# Altium schematic symbol library Connector.SchLib: 66 symbols
Pins are listed as number, name and electrical type; pins without a type are passive.

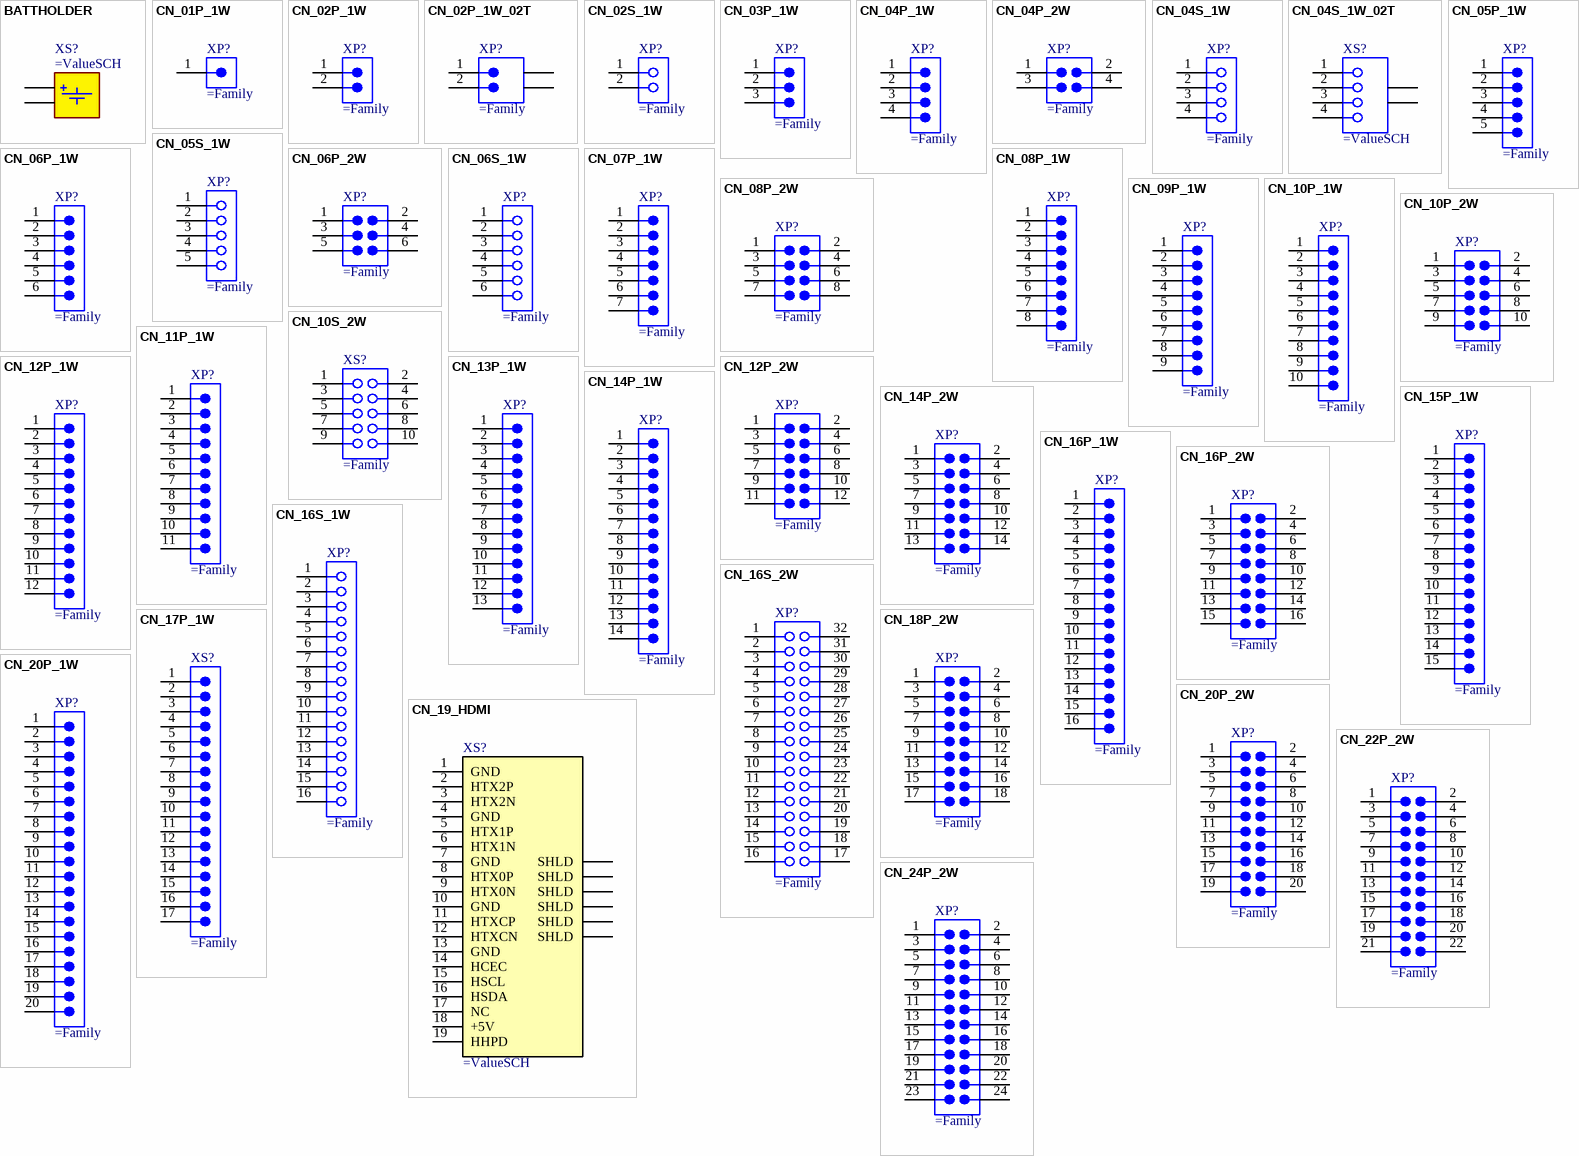
[diagram p0: symbols BATTHOLDER to CN_24P_2W]

## BATTHOLDER
designator XS?
Battery Holder
pins: M, P

## CN_01P_1W
designator XP?
pins: 1

## CN_02P_1W
designator XP?
pins: 1, 2

## CN_02P_1W_02T
designator XP?
pins: 1, 2, T, T

## CN_02S_1W
designator XP?
pins: 1, 2

## CN_03P_1W
designator XP?
pins: 1, 2, 3

## CN_04P_1W
designator XP?
pins: 1, 2, 3, 4

## CN_04P_2W
designator XP?
pins: 1, 2, 3, 4

## CN_04S_1W
designator XP?
pins: 1, 2, 3, 4

## CN_04S_1W_02T
designator XS?
pins: 1, 2, 3, 4, T, T

## CN_05P_1W
designator XP?
pins: 1, 2, 3, 4, 5

## CN_05S_1W
designator XP?
pins: 1, 2, 3, 4, 5

## CN_06P_1W
designator XP?
pins: 1, 2, 3, 4, 5, 6

## CN_06P_2W
designator XP?
pins: 1, 2, 3, 4, 5, 6

## CN_06S_1W
designator XP?
pins: 1, 2, 3, 4, 5, 6

## CN_07P_1W
designator XP?
pins: 1, 2, 3, 4, 5, 6, 7

## CN_08P_1W
designator XP?
pins: 1, 2, 3, 4, 5, 6, 7, 8

## CN_08P_2W
designator XP?
pins: 1, 2, 3, 4, 5, 6, 7, 8

## CN_09P_1W
designator XP?
pins: 1, 2, 3, 4, 5, 6, 7, 8, 9

## CN_10P_1W
designator XP?
pins: 1, 2, 3, 4, 5, 6, 7, 8, 9, 10

## CN_10P_2W
designator XP?
pins: 1, 2, 3, 4, 5, 6, 7, 8, 9, 10

## CN_10S_2W
designator XS?
pins: 1, 2, 3, 4, 5, 6, 7, 8, 9, 10

## CN_11P_1W
designator XP?
pins: 1, 2, 3, 4, 5, 6, 7, 8, 9, 10, 11

## CN_12P_1W
designator XP?
pins: 1, 2, 3, 4, 5, 6, 7, 8, 9, 10, 11, 12

## CN_12P_2W
designator XP?
pins: 1, 2, 3, 4, 5, 6, 7, 8, 9, 10, 11, 12

## CN_13P_1W
designator XP?
pins: 1, 2, 3, 4, 5, 6, 7, 8, 9, 10, 11, 12, 13

## CN_14P_1W
designator XP?
pins: 1, 2, 3, 4, 5, 6, 7, 8, 9, 10, 11, 12, 13, 14

## CN_14P_2W
designator XP?
pins: 1, 2, 3, 4, 5, 6, 7, 8, 9, 10, 11, 12, 13, 14

## CN_15P_1W
designator XP?
pins: 1, 2, 3, 4, 5, 6, 7, 8, 9, 10, 11, 12, 13, 14, 15

## CN_16P_1W
designator XP?
pins: 1, 2, 3, 4, 5, 6, 7, 8, 9, 10, 11, 12, 13, 14, 15, 16

## CN_16P_2W
designator XP?
pins: 1, 2, 3, 4, 5, 6, 7, 8, 9, 10, 11, 12, 13, 14, 15, 16

## CN_16S_1W
designator XP?
pins: 1, 2, 3, 4, 5, 6, 7, 8, 9, 10, 11, 12, 13, 14, 15, 16

## CN_16S_2W
designator XP?
pins: 1, 2, 3, 4, 5, 6, 7, 8, 9, 10, 11, 12, 13, 14, 15, 16, 17, 18, 19, 20, 21, 22, 23, 24, 25, 26, 27, 28, 29, 30, 31, 32

## CN_17P_1W
designator XS?
pins: 1, 2, 3, 4, 5, 6, 7, 8, 9, 10, 11, 12, 13, 14, 15, 16, 17

## CN_18P_2W
designator XP?
pins: 1, 2, 3, 4, 5, 6, 7, 8, 9, 10, 11, 12, 13, 14, 15, 16, 17, 18

## CN_19_HDMI
designator XS?
pins: 1 GND, 2 HTX2P, 3 HTX2N, 4 GND, 5 HTX1P, 6 HTX1N, 7 GND, 8 HTX0P, 9 HTX0N, 10 GND, 11 HTXCP, 12 HTXCN, 13 GND, 14 HCEC, 15 HSCL, 16 HSDA, 17 NC, 18 +5V, 19 HHPD, SHLD, SHLD, SHLD, SHLD, SHLD, SHLD

## CN_20P_1W
designator XP?
pins: 1, 2, 3, 4, 5, 6, 7, 8, 9, 10, 11, 12, 13, 14, 15, 16, 17, 18, 19, 20

## CN_20P_2W
designator XP?
pins: 1, 2, 3, 4, 5, 6, 7, 8, 9, 10, 11, 12, 13, 14, 15, 16, 17, 18, 19, 20

## CN_22P_2W
designator XP?
pins: 1, 2, 3, 4, 5, 6, 7, 8, 9, 10, 11, 12, 13, 14, 15, 16, 17, 18, 19, 20, 21, 22

## CN_24P_2W
designator XP?
pins: 1, 2, 3, 4, 5, 6, 7, 8, 9, 10, 11, 12, 13, 14, 15, 16, 17, 18, 19, 20, 21, 22, 23, 24

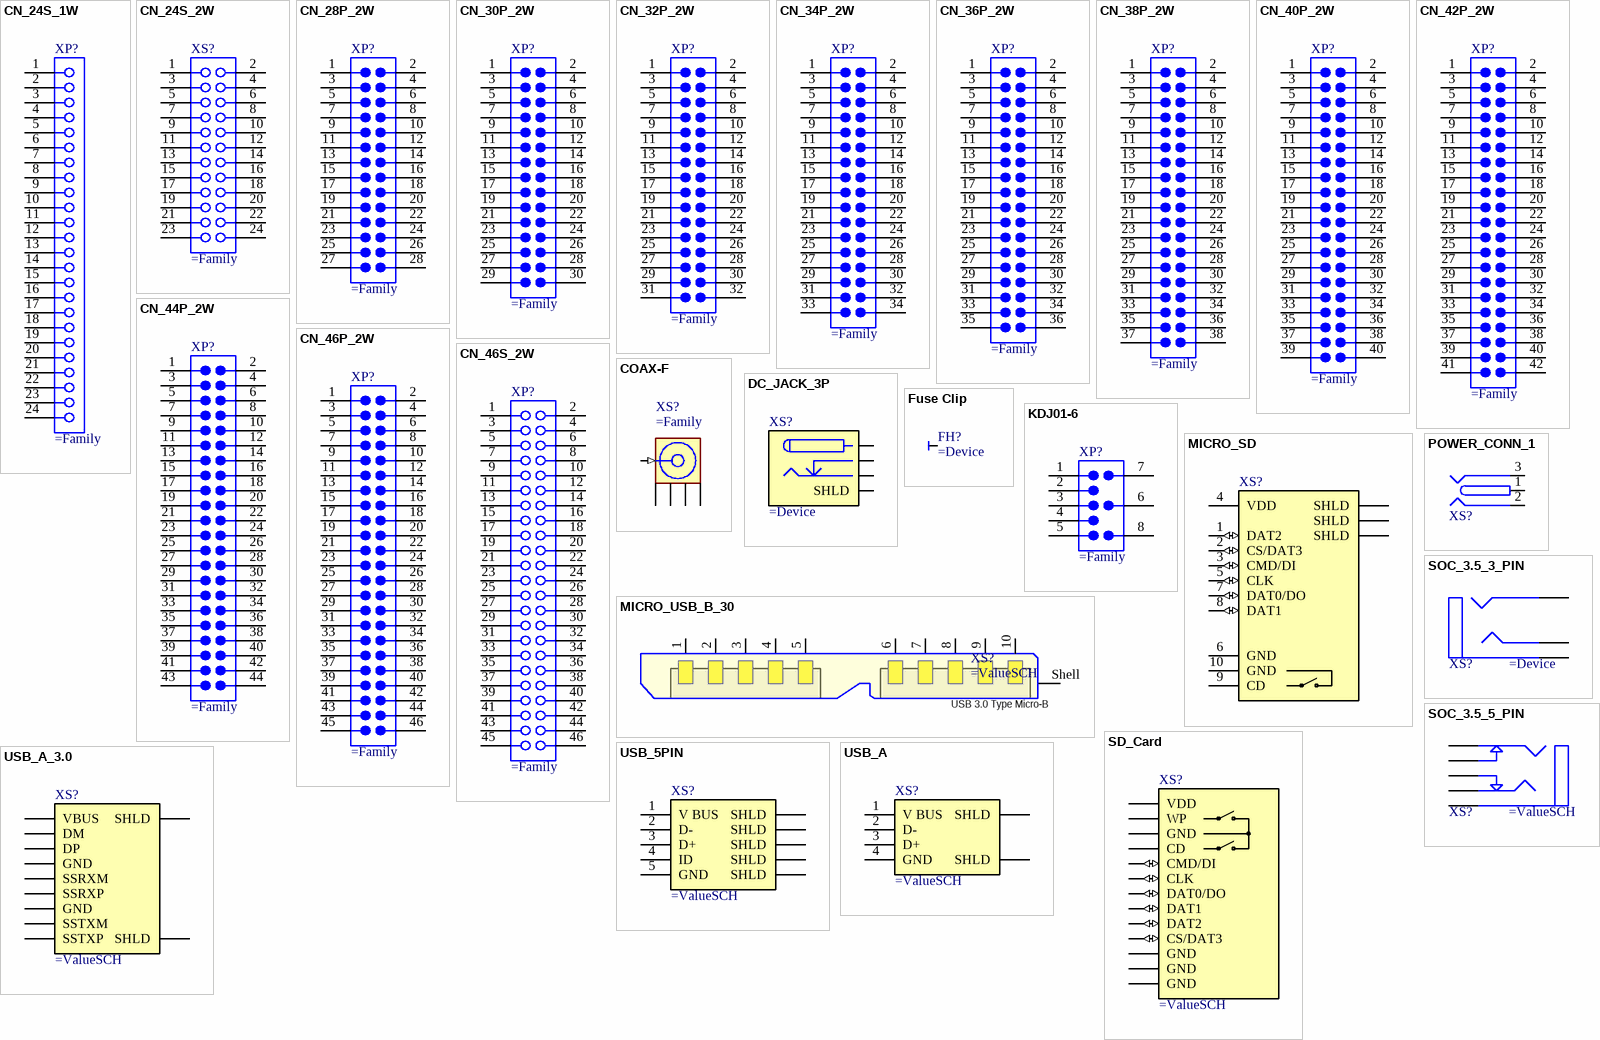
[diagram p1: symbols CN_24S_1W to USB_A_3.0]

## CN_24S_1W
designator XP?
pins: 1, 2, 3, 4, 5, 6, 7, 8, 9, 10, 11, 12, 13, 14, 15, 16, 17, 18, 19, 20, 21, 22, 23, 24

## CN_24S_2W
designator XS?
pins: 1, 2, 3, 4, 5, 6, 7, 8, 9, 10, 11, 12, 13, 14, 15, 16, 17, 18, 19, 20, 21, 22, 23, 24

## CN_28P_2W
designator XP?
pins: 1, 2, 3, 4, 5, 6, 7, 8, 9, 10, 11, 12, 13, 14, 15, 16, 17, 18, 19, 20, 21, 22, 23, 24, 25, 26, 27, 28

## CN_30P_2W
designator XP?
pins: 1, 2, 3, 4, 5, 6, 7, 8, 9, 10, 11, 12, 13, 14, 15, 16, 17, 18, 19, 20, 21, 22, 23, 24, 25, 26, 27, 28, 29, 30

## CN_32P_2W
designator XP?
pins: 1, 2, 3, 4, 5, 6, 7, 8, 9, 10, 11, 12, 13, 14, 15, 16, 17, 18, 19, 20, 21, 22, 23, 24, 25, 26, 27, 28, 29, 30, 31, 32

## CN_34P_2W
designator XP?
pins: 1, 2, 3, 4, 5, 6, 7, 8, 9, 10, 11, 12, 13, 14, 15, 16, 17, 18, 19, 20, 21, 22, 23, 24, 25, 26, 27, 28, 29, 30, 31, 32, 33, 34

## CN_36P_2W
designator XP?
pins: 1, 2, 3, 4, 5, 6, 7, 8, 9, 10, 11, 12, 13, 14, 15, 16, 17, 18, 19, 20, 21, 22, 23, 24, 25, 26, 27, 28, 29, 30, 31, 32, 33, 34, 35, 36

## CN_38P_2W
designator XP?
pins: 1, 2, 3, 4, 5, 6, 7, 8, 9, 10, 11, 12, 13, 14, 15, 16, 17, 18, 19, 20, 21, 22, 23, 24, 25, 26, 27, 28, 29, 30, 31, 32, 33, 34, 35, 36, 37, 38

## CN_40P_2W
designator XP?
pins: 1, 2, 3, 4, 5, 6, 7, 8, 9, 10, 11, 12, 13, 14, 15, 16, 17, 18, 19, 20, 21, 22, 23, 24, 25, 26, 27, 28, 29, 30, 31, 32, 33, 34, 35, 36, 37, 38, 39, 40

## CN_42P_2W
designator XP?
pins: 1, 2, 3, 4, 5, 6, 7, 8, 9, 10, 11, 12, 13, 14, 15, 16, 17, 18, 19, 20, 21, 22, 23, 24, 25, 26, 27, 28, 29, 30, 31, 32, 33, 34, 35, 36, 37, 38, 39, 40, 41, 42

## CN_44P_2W
designator XP?
pins: 1, 2, 3, 4, 5, 6, 7, 8, 9, 10, 11, 12, 13, 14, 15, 16, 17, 18, 19, 20, 21, 22, 23, 24, 25, 26, 27, 28, 29, 30, 31, 32, 33, 34, 35, 36, 37, 38, 39, 40, 41, 42, 43, 44

## CN_46P_2W
designator XP?
pins: 1, 2, 3, 4, 5, 6, 7, 8, 9, 10, 11, 12, 13, 14, 15, 16, 17, 18, 19, 20, 21, 22, 23, 24, 25, 26, 27, 28, 29, 30, 31, 32, 33, 34, 35, 36, 37, 38, 39, 40, 41, 42, 43, 44, 45, 46

## CN_46S_2W
designator XP?
pins: 1, 2, 3, 4, 5, 6, 7, 8, 9, 10, 11, 12, 13, 14, 15, 16, 17, 18, 19, 20, 21, 22, 23, 24, 25, 26, 27, 28, 29, 30, 31, 32, 33, 34, 35, 36, 37, 38, 39, 40, 41, 42, 43, 44, 45, 46

## COAX-F
designator XS?
RF Coaxial PCB Connector, MCX; Thru-Hole, Right-Angle Mount Socket, Blunt Post Terminal, 50 Ohm Impedance
pins: 1 Signal (in) "Signal Pin", 2 GND (power), 3 GND (power), 4 GND (power), 5 GND (power)

## DC_JACK_3P
designator XS?
Low Voltage Power Supply Connector
pins: GND (power), SHLD (power), SW (power), VCC (power)

## Fuse Clip
designator FH?
pins: 1

## KDJ01-6
designator XP?
pins: 1, 2, 3, 4, 5, 6, 7, 8

## MICRO_SD
designator XS?
SD Card Connector
pins: 1 DAT2 (io), 2 CS/DAT3 (io), 3 CMD/DI (io), 4 VDD (power), 5 CLK (io), 6 GND (power), 7 DAT0/DO (io), 8 DAT1 (io), 9 CD (oc), 10 GND (power), SHLD, SHLD, SHLD

## MICRO_USB_B_30
designator XS?
WR-COM Micro USB 3.0 Type B Vertical SMT
pins: 1 VBUS, 2 D-, 3 D+, 4 ID, 5 GND, 6 MicB_SSTX–, 7 MicB_SSTX+, 8 GND_DRAIN, 9 MicB_SSRX–, 10 MicB_SSRX+, Shell
text: USB 3.0 Type Micro-B

## POWER_CONN_1
designator XS?
Low Voltage Power Supply Connector
pins: 1 (power), 2 (power), 3 (power)

## SD_Card
designator XS?
SD Card Connector
footprint SDC-W24PB20B00-09
pins: CD (oc), CLK (io), CMD CMD/DI (io), D0 DAT0/DO (io), D1 DAT1 (io), D2 DAT2 (io), D3 CS/DAT3 (io), GND (power), GND (power), GND (power), GND (power), VDD (power), WP

## SOC_3.5_3_PIN
designator XS?
pins: COM, L, R

## SOC_3.5_5_PIN
designator XS?
3.5 mm Jack Connector
pins: COM, L, L-C, R, R-C

## USB_5PIN
designator XS?
pins: 1 V BUS "USB Vcc [Red]", 2 D- "USB Data - [White]", 3 D+ "USB Data + [Green]", 4 ID, 5 GND "Ground [Black]", SHLD "Shell", SHLD "Shell", SHLD "Shell", SHLD "Shell", SHLD "Shell"

## USB_A
designator XS?
pins: 1 V BUS "USB Vcc [Red]", 2 D- "USB Data - [White]", 3 D+ "USB Data + [Green]", 4 GND "Ground [Black]", SHLD "Shell", SHLD "Shell"

## USB_A_3.0
designator XS?
pins: DM "USB Data - [White]", DP "USB Data + [Green]", GND "Ground [Black]", GND "Ground [Black]", SHLD "Shell", SHLD "Shell", SSRXM "Ground [Black]", SSRXP "Ground [Black]", SSTXM "Ground [Black]", SSTXP "Ground [Black]", VBUS "USB Vcc [Red]"